# EAGLE library part AFII-TC-0015 (library AFII-TC-0015)
Signal Conditioning 978 MHz Temperature Compensated SAW Filter Source: Datasheet <https://abracon.com/datasheets/AFII-TC-0015.pdf>
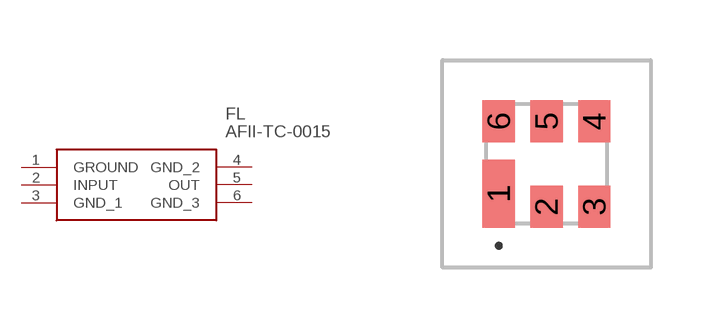
[diagram p0: symbol with the pads of AFIITC0015; footprint AFIITC0015]

Designator prefix FL

## AFII-TC-0015 (Description: Signal Conditioning 978 MHz Temperature Compensated SAW Filter; Height: 1.4mm; Manufacturer_Name: ABRACON; Manufacturer_Part_Number: AFII-TC-0015)  [AFIITC0015]
1  GROUND
2  INPUT
3  GND_1
4  GND_2
5  OUT
6  GND_3

## Footprint AFIITC0015 (pad centres in mm)
6-SMD, No Lead
smd 0.81 x 1.7: 1 -1.195,-0.745
smd 0.81 x 1.05: 2 0,-1.07; 3 1.195,-1.07; 4 1.195,1.07; 5 0,1.07; 6 -1.195,1.07